# Altium footprint library KLS5_CR2032.PcbLib: 1 footprints
Each footprint in its own frame and in the unit in brackets; x right, y up, seen from the top. Pads: shape width x height; smd on the part's side, far side on the other; paste and mask are expansions set on the pad; w line width, h text height; cw(c..) or ccw(c..) is an arc to the next point about the centre after c.
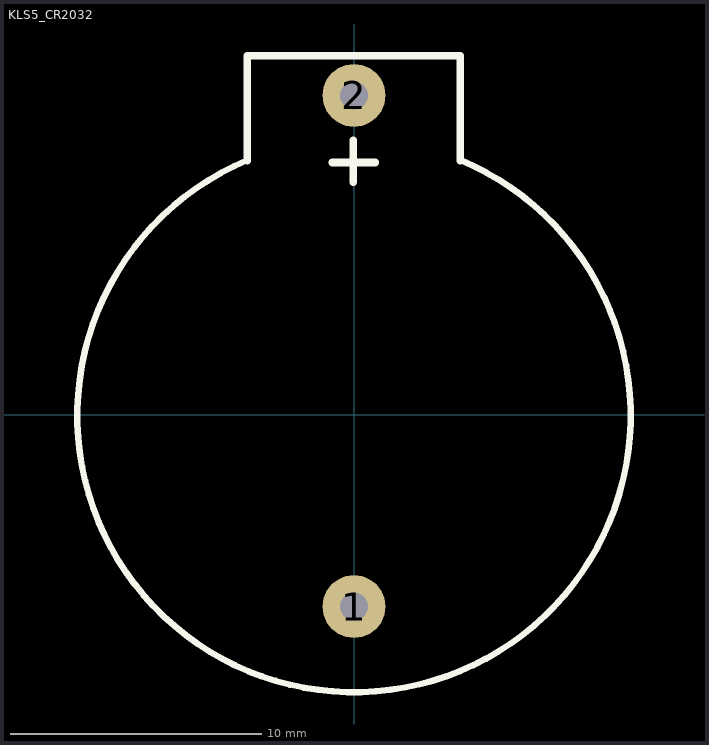
[diagram p0: the footprint, top view; thin cyan lines are the x and y axes]

## KLS5_CR2032 [mm]
pads (2):
  round 2.5 hole 1.1: 1(0,-7.62) 2(0,12.7)
Top Overlay:
  lines w0.254: -4.247,10.122 ccw(c0,-0.025) 4.229,10.129
  lines w0.3: -4.242,10.109 -4.242,14.275 4.216,14.275 4.216,10.109 ; -0.864,10.033 0.838,10.033 ; -0.025,9.246 -0.025,10.922
3D body "CR2032_HOR_HOLD.step": height 8.5, standoff -4, extent -11,-11 11,13.5